# Altium schematic symbol library EPROM Emulator NG 2.SCHLIB: 31 symbols
Pins are listed as number, name and electrical type; pins without a type are passive.

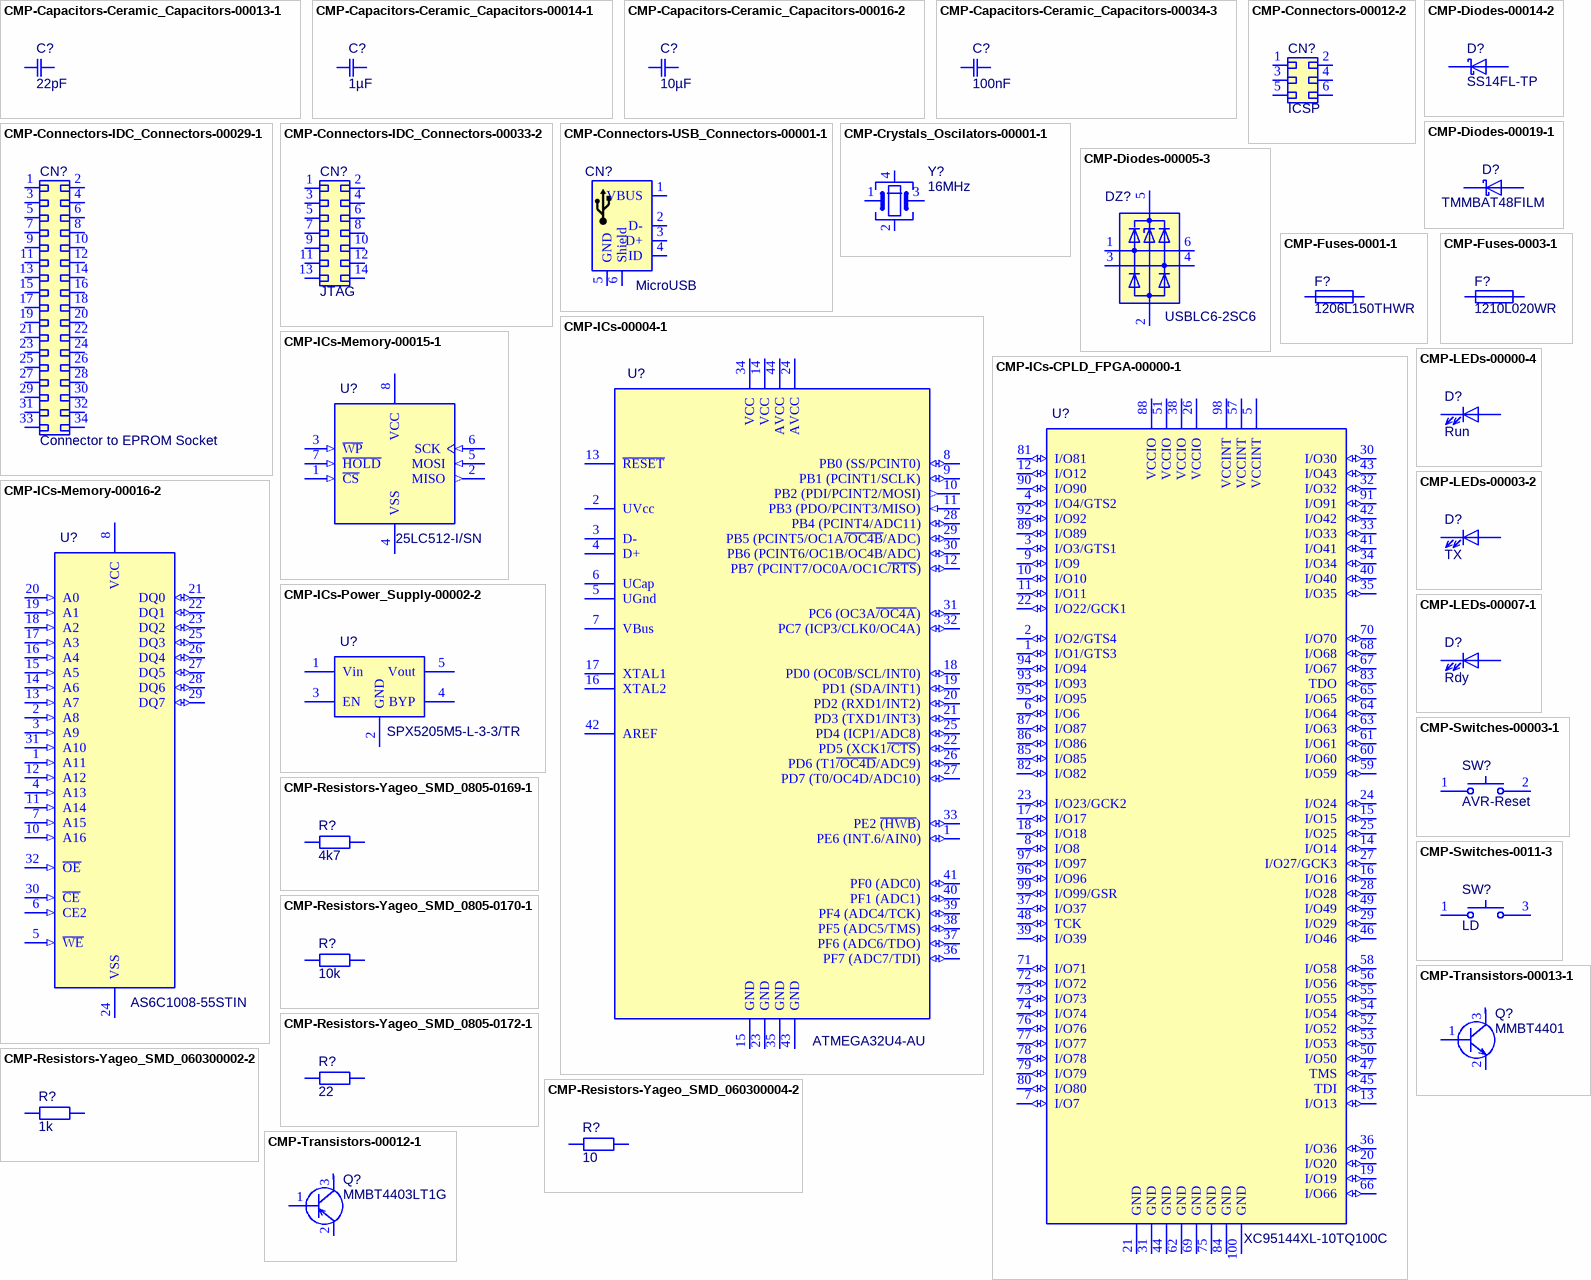
[diagram p0: symbols CMP-Capacitors-Ceramic_Capacitors-00013-1 to CMP-Transistors-00013-1]

## CMP-Capacitors-Ceramic_Capacitors-00013-1
designator C?, comment 22pF
22.0PF 50.0V; Manufacturer: KEMET; Manufacturer Part Number: C0603C220J5RACTU; Tolerance: 5%; Dielectric: X7R; Voltage Rating (DC): 50V; Dielectric Material: Ceramic; Capacitance: 2.2E-11F; Case/Package: 0603; Component Type: Ceramic Capacitors
footprint CAP 22pF SMD 0603 C0603C220J5RAC7867 (Chip Capacitor, 2-Leads, Body 1,60x0,80mm, IPC Medium Density)
pins: 1, 2

## CMP-Capacitors-Ceramic_Capacitors-00014-1
designator C?, comment 1µF
KEMET 1F Multilayer Ceramic Capacitor (MLCC) 25 V 10% X7R dielectric C SMD max op. temp. +125C; Manufacturer Part Number: C0603C105K3RACTU; Dissipation Factor: 5%; Voltage Rating: 25V; Capacitance: 1uF; Case Code (Imperial): 0603; Termination: SMD/SMT; Thickness: 0.034inch; REACH SVHC: No SVHC; Depth: 0.8mm; Width: 0.031inch; Case Code (Metric): 1608; Min Operating Temperature: -55°C; Dielectric: X7R; Package Quantity: 1; Packaging: Tape and Reel; Height: 0.8mm; Max Operating Temperature: 125°C; Tolerance: 10%; Voltage Rating (DC): 25V; Voltage: 25V; Dielectric Material: Ceramic; Case/Package: 0603; Mount: Surface Mount; Length: 1.6mm; Manufacturer: KEMET; Component Type: Ceramic Capacitors
footprint CAP 1µF SMD 0603 C0603C105K3RACTU (Chip Capacitor, 2-Leads, Body 1,60x0,80mm, IPC Medium Density)
pins: 1, 2

## CMP-Capacitors-Ceramic_Capacitors-00016-2
designator C?, comment 10µF
KEMET - C0805C106K8RACTU - CAP, 10µF, 10V, 10%, X7R, 0805; Dissipation Factor: 7.5%; Dielectric Material: Ceramic; Capacitance: 10uF; Max Operating Temperature: 125°C; Packaging: Tape and Reel; Case Code (Imperial): 0805; Depth: 1.25mm; Voltage: 10V; Voltage Rating (DC): 10V; Mount: Surface Mount,PCB; Min Operating Temperature: -55°C; Case Code (Metric): 2012; Case/Package: 0805; Thickness: 0.055inch; Termination: SMD/SMT; Voltage Rating: 10V; Height: 1.25mm; Dielectric: X7R; Width: 1.2mm; Package Quantity: 1; Length: 2mm; REACH SVHC: No SVHC; Tolerance: 10%; Manufacturer: KEMET; Manufacturer Part Number: C0805C106K8RACTU; Component Type: Ceramic Capacitors
footprint Kemet C0805CxxxK8RACTU Series H=1.4mm
pins: 1, 2

## CMP-Capacitors-Ceramic_Capacitors-00034-3
designator C?, comment 100nF
CAP CER 0.1UF 10V X7R 0402; Manufacturer: Murata; Manufacturer Part Number: GRM155R71A104KA01D; Dissipation Factor: 0.035%; Tolerance: 10%; Length: 1mm; Lead Free: Lead Free; REACH SVHC: No SVHC; Case Code (Metric): 1005; Min Operating Temperature: -55°C; Voltage Rating (DC): 10V; Voltage: 10V; Thickness: 0.022inch; Height: 0.5mm; Depth: 0.5mm; Max Operating Temperature: 125°C; Dielectric: X7R; Capacitance: 100nF; Case Code (Imperial): 0402; Number of Pins: 2; Case/Package: 0402; Voltage Rating: 10V; Radiation Hardening: No; Mount: Surface Mount; Packaging: Tape and Reel; Width: 0.02inch; Package Quantity: 1; Termination: SMD/SMT; Component Type: Ceramic Capacitors
footprint CAP CER SMD 0402 100nF 10V Murata GRM155R71A104KA01D (Chip Capacitor, 2-Leads, Body 1,00x0,50mm, IPC Medium Density)
pins: 1, 2

## CMP-Connectors-00012-2
designator CN?, comment ICSP
SMD Pad Connector 02x03 odd even; Component Type: SMD PADS
footprint SMD PAD CONN 02x03 odd even
pins: 1, 2, 3, 4, 5, 6

## CMP-Connectors-IDC_Connectors-00029-1
designator CN?, comment Connector to EPROM Socket
Conn Ejector Header HDR 34 POS 2.54mm Solder RA Thru-Hole Loose Piece; Manufacturer: TE Connectivity AMP; Manufacturer Part Number: 5499345-8; Shrouded: Yes (With); Connector Type: Plug,Header,Pin; Number of Positions: 34; PCB Mount Alignment: No (Without); Insulation Resistance: 5GR; PCB Thickness: 1.57mm; PCB Mounting Orientation: Right Angle; Connector System: Board-to-Board; Plating Thickness: 0.76um; PCB Mount Retention: Without; Contact Current Rating: 1A; Contact Post Length: 2.79mm; Fastening Type: Latch; Min Operating Temperature: -65°C; Board Standoff: No (Without); Termination: Through Hole; Housing Color: Black; ELV: Compliant; Packaging: Tray; Mating Connector Lock: Yes (With); Flammability Rating: UL94 V-0; Mating Retention: Yes (With); Row Spacing: 2.54mm; Height: 13.94mm; Radiation Hardening: No; Mating Alignment: Yes (With); Pitch: 2.54mm; Package Quantity: 24; Contact Material: Brass; Orientation: Right Angle; Lead Free: Lead Free; Contact Plating: Gold,Tin,Matte; Contact Mating Length: 0.24inch; Length: 2.46inch; Mount: Through Hole; Color: Black; Shrouded End Dimension: 3.81mm; Contact Shape: Square; Number of Rows: 2; Max Operating Temperature: 105°C; Housing Material: Nylon; Number of Contacts: 34; Component Type: IDC Connectors
footprint IDC Header 2x17 Right Angle with Lock
pins: 1, 2, 3, 4, 5, 6, 7, 8, 9, 10, 11, 12, 13, 14, 15, 16, 17, 18, 19, 20, 21, 22, 23, 24, 25, 26, 27, 28, 29, 30, 31, 32, 33, 34

## CMP-Connectors-IDC_Connectors-00033-2
designator CN?, comment JTAG
Grid pitch: 1.27 mm BL2/15-0400GTT-014 RU MPE Garry Conten; Manufacturer: MPE-Garry; Manufacturer Part Number: 369-1-014-0-NTX-KT0; Pitch: 1.27mm; Contact Material: Bronze,Tin; Height: 3.95mm; Length: 19.7mm; Width: 5mm; Insulation Material: Thermoplastic; Component Type: IDC Connectors
footprint MPE 369-1-014 Buchsenleisten MicroMatch 1,27 mm,2X10,gerade
pins: 1, 2, 3, 4, 5, 6, 7, 8, 9, 10, 11, 12, 13, 14

## CMP-Connectors-USB_Connectors-00001-1
designator CN?, comment MicroUSB
Socket micro-USB B 5P, 629105150521, Würth Elektronik; Manufacturer: Wurth Electronics; Gender: Receptacle; Number of Contacts: 5; USB Standard: USB 2.0; Connector Type: USB; Orientation: Right Angle; Lead Free: Lead Free; Mount: Surface Mount,Horizontal; REACH SVHC: Unknown; Contact Plating: Gold; Packaging: Tape and Reel; Termination: SMD/SMT; Features: Shielded; Contact Material: Copper Alloy; Manufacturer Part Number: 629105150521; Component Type: USB Connectors
footprint MicroUSB Connector Right Angle Receptacle (Würth 629105150521)
pins: 1 VBUS (power), 2 D-, 3 D+, 4 ID (power), 5 GND, 6 Shield, 7 Shield, 8 Shield, 9 Shield, 10 Mounting Hole hidden, 11 Mounting Hole hidden

## CMP-Crystals_Oscilators-00001-1
designator Y?, comment 16MHz
16MHz ±10ppm 9pF 200Ω SMD,2.0x1.6mm SMD Crystal Resonators RoHS; Manufacturer: Raltron Electronics; Manufacturer Part Number: R2016-16.000-9-1010-TR-NS1; Component Type: Crystals and Oscilators
footprint Crystal 16MHz SMD 2.0x1.6mm 4pos GND2-4
pins: 1, 2, 3, 4

## CMP-Diodes-00005-3
designator DZ?, comment USBLC6-2SC6
TVS DIODE 5.25V 17V SOT23-6; Manufacturer: STMicroelectronics; Working Voltage: 5V; Test Current: 1mA; Direction: Unidirectional,Bidirectional; Leakage Current: 150nA; Capacitance: 3.5pF; Number of Bidirectional Channels: 2; Max Breakdown Voltage: 6V; ESD Protection: Yes; Operating Supply Voltage: 1.1V; Element Configuration: Dual; Peak Pulse Current: 5A; Number of Elements: 1; Data Rate: 480Mbps; Package Quantity: 3000; Max Operating Temperature: 125°C; Width: 1.75mm; Contact Plating: Tin,Matte; Packaging: Tape and Reel; Termination: SMD/SMT; Max Reverse Leakage Current: 150nA; Min Operating Temperature: -40°C; Power Line Protection: Yes; Radiation Hardening: No; REACH SVHC: No SVHC; Breakdown Voltage: 6V; Length: 3.05mm; Clamping Voltage: 17V; Mount: Surface Mount; Depth: 1.75mm; Number of Pins: 6; Reverse Standoff Voltage: 5.25V; Number of Channels: 2; Min Breakdown Voltage: 6V; Height: 1.3mm; Reverse Breakdown Voltage: 6V; Polarity: Unidirectional,Bidirectional; Case/Package: SOT-23; Lead Free: Lead Free; Manufacturer Part Number: USBLC6-2SC6; Component Type: Diodes
footprint USBLC6-2SC6 (ESD Suppressors / TVS Diodes ESD Protection Low Cap)
pins: 1, 2, 3, 4, 5, 6

## CMP-Diodes-00014-2
designator D?, comment SS14FL-TP
DIODE SCHOTTKY 40V 1A DO221AC; Manufacturer: MCC; Packaging: Tape and Reel; Mount: Surface Mount; Average Rectified Current: 1A; Max Reverse Voltage (DC): 40V; Manufacturer Part Number: SS14FL-TP; Component Type: Diodes
footprint SS14FL (Dioden Schottky 40V 1A Oberflächenmontage DO-221AC (SMA-FL))
pins: 1, 2

## CMP-Diodes-00019-1
designator D?, comment TMMBAT48FILM
STMICROELECTRONICS         TMMBAT48FILM..             Small Signal Schottky Diode, Single, 40 V, 350 mA, 900 mV, 7.5 A, 125 C; Recovery Time: 10ns; Voltage Rating (DC): 40V; Max Surge Current: 7.5A; Polarity: Standard; Forward Current: 350mA; Max Power Dissipation: 330mW; Capacitance: 20pF; Forward Voltage: 900mV; Max Reverse Current: 25uA; Outside Diameter: 1.62mm; Mount: Surface Mount; Width: 1.62mm; Peak Non-Repetitive Surge Current: 7.5A; Packaging: Tape and Reel; Min Operating Temperature: -65°C; Case/Package: MELF; Average Rectified Current: 350mA; Length: 3.4mm; Height: 1.62mm; Package Quantity: 1; Max Operating Temperature: 125°C; Max Forward Surge Current (Ifsm): 7.5A; Lead Free: Lead Free; Max Reverse Leakage Current: 25uA; Number of Pins: 2; Output Current: 350mA; Max Repetitive Reverse Voltage (Vrrm): 40V; Weight: 0.01lb; Current Rating: 350mA; Element Configuration: Single; Radiation Hardening: No; Max Reverse Voltage (DC): 40V; REACH SVHC: No SVHC; Termination: SMD/SMT; Reverse Recovery Time: 10ns; Manufacturer: STMicroelectronics; Manufacturer Part Number: TMMBAT48FILM; Component Type: Diodes
footprint MiniMELF Diode (MELF Diode, 2-Leads, Body 3,50x1,50mm, IPC Medium Density)
pins: 1, 2

## CMP-Fuses-0001-1
designator F?, comment 1206L150THWR
PTC RESET FUSE 8V 1.5A 1206; Manufacturer: Littelfuse; Time to Trip: 0.3s; Working Voltage: 6V; Current Rating: 100A; Resistance: 120mR; Power Dissipation: 800mW; Approvals: cULus,TUV; Trip Current: 3A; Voltage Rating: 8V; Package Quantity: 3000; Packaging: Tape and Reel; Termination: SMD/SMT; Length: 3.4mm; REACH SVHC: Unknown; Terminal Material: Copper; Voltage Rating (DC): 8V; Max Operating Temperature: 85°C; Min Operating Temperature: -40°C; Lead Free: Lead Free; Case Code (Metric): 3216; Hold Current: 1.5A; Width: 1.8mm; Height: 0.75mm; Operating Supply Voltage: 8V; Max Current Rating: 100A; Max Voltage Rating (DC): 8V; Case Code (Imperial): 1206; Case/Package: 1206; Manufacturer Part Number: 1206L150THWR; Component Type: Fuses
footprint Littelfuse 1206L150THWR
pins: 1, 2

## CMP-Fuses-0003-1
designator F?, comment 1210L020WR
LITTELFUSE - 1210L020WR - PPTC Resettable Fuse, SMD, POLYFUSE 1210L Series, 200 mA, 400 mA, 30 VDC, -40 °C; Power Dissipation: 600mW; Resistance: 5R; Max Current Rating: 10A; Hold Current: 200mA; Voltage Rating: 30V; Approvals: cULus,TUV; Time to Trip: 0.02s; Trip Current: 400mA; Termination: SMD/SMT; Height: 1mm; Case Code (Metric): 3225; Case Code (Imperial): 1210; Current Rating: 10A; Min Operating Temperature: -40°C; Operating Supply Voltage: 30V; Package Quantity: 3000; Lead Free: Lead Free; Max Voltage Rating (DC): 30V; Width: 2.8mm; Max Operating Temperature: 85°C; Terminal Material: Copper; Packaging: Tape and Reel; Case/Package: 1210; Length: 3.43mm; Voltage Rating (DC): 30V; Working Voltage: 30V; REACH SVHC: No SVHC; Manufacturer: Littelfuse; Manufacturer Part Number: 1210L020WR
footprint PTC Littlefuse 1210L020WR
pins: 1, 2

## CMP-ICs-00004-1
designator U?, comment ATMEGA32U4-AU
ATMEL         ATMEGA32U4-AU            MCU, 8BIT, MEGAAVR, 16MHZ, TQFP-44; Manufacturer: Microchip / Atmel; Core Architecture: AVR; Number of I2C Channels: 1; Number of ADC Channels: 12; Number of I/Os: 26; Oscillator Type: External; Peripherals: Brown-out Detect/Reset,POR,PWM,WDT; Watchdog Timer: Yes; Interface: SPI,USART,I2C,USB,UART,I2S; Number of Timers/Counters: 5; Min Supply Voltage: 2.7V; Number of PWM Channels: 8; Max Supply Voltage: 5.5V; Memory Type: FLASH; RAM Size: 2.5KB; Data Bus Width: 8b; Memory Size: 32KB; Case/Package: TQFP; Lead Free: Lead Free; Max Operating Temperature: 85°C; Package Quantity: 800; Number of Pins: 44; Number of SPI Channels: 1; Min Operating Temperature: -40°C; Mount: Surface Mount; Max Frequency: 16MHz; Number of Programmable I/O: 26; Packaging: Tray; Radiation Hardening: No; Frequency: 16MHz; Length: 10mm; Height: 1.05mm; REACH SVHC: No SVHC; Width: 10mm; Manufacturer Part Number: ATMEGA32U4-AU; Component Type: ICs
footprint ATmega32U4-AU (TQFP, 44-Leads, Body 10,00x10,00mm, Pitch 0,80mm, IPC Medium Density)
pins: 1 PE6 (INT.6/AIN0) (io), 2 UVcc (power), 3 D-, 4 D+, 5 UGnd (power), 6 UCap (power), 7 VBus (power), 8 PB0 (SS/PCINT0) (io), 9 PB1 (PCINT1/SCLK) (io), 10 PB2 (PDI/PCINT2/MOSI) (out), 11 PB3 (PDO/PCINT3/MISO) (in), 12 PB7 (PCINT7/OC0A/OC1C~{/RTS}) (io), 13 ~{RESET}, 14 VCC (power), 15 GND (power), 16 XTAL2, 17 XTAL1, 18 PD0 (OC0B/SCL/INT0) (io), 19 PD1 (SDA/INT1) (io), 20 PD2 (RXD1/INT2) (io), 21 PD3 (TXD1/INT3) (io), 22 PD5 (XCK1~{/CTS}) (io), 23 GND (power), 24 AVCC (power), 25 PD4 (ICP1/ADC8) (io), 26 PD6 (T1~{/OC4D}/ADC9) (io), 27 PD7 (T0/OC4D/ADC10) (io), 28 PB4 (PCINT4/ADC11) (io), 29 PB5 (PCINT5/OC1A~{/OC4B}/ADC) (io), 30 PB6 (PCINT6/OC1B/OC4B/ADC) (io), 31 PC6 (OC3A~{/OC4A}) (io), 32 PC7 (ICP3/CLK0/OC4A) (io), 33 PE2 ~{(HWB}) (io), 34 VCC (power), 35 GND (power), 36 PF7 (ADC7/TDI) (io), 37 PF6 (ADC6/TDO) (io), 38 PF5 (ADC5/TMS) (io), 39 PF4 (ADC4/TCK) (io), 40 PF1 (ADC1) (io), 41 PF0 (ADC0) (io), 42 AREF (power), 43 GND (power), 44 AVCC (power)

## CMP-ICs-CPLD_FPGA-00000-1
designator U?, comment XC95144XL-10TQ100C
IC CPLD 144MC 7.5NS 100TQFP; Manufacturer: Xilinx; Manufacturer Part Number: XC95144XL-7TQ100C; Speed Grade: 7; Operating Supply Voltage: 3.3V; Max Supply Voltage: 3.6V; Number of Gates: 3200; Min Supply Voltage: 3V; Number of I/Os: 81; Number of Macrocells: 144; Number of Logic Blocks (LABs): 8; Max Frequency: 125MHz; Memory Type: FLASH; Turn-On Delay Time: 7.5ns; Mount: Surface Mount; Number of Pins: 100; Propagation Delay: 7.5ns; Package Quantity: 90; Case/Package: LQFP; Contact Plating: Tin,Lead; Packaging: Tray; Lead Free: Contains Lead; Min Operating Temperature: 0°C; Number of Logic Elements/Cells: 8; Max Operating Temperature: 70°C; Component Type: CPLD-FPGA
footprint TQFP-100 P0.5mm XC95144XL-7TQ100C (TSQFP, 100-Leads, Body 14,00x14,00mm, Pitch 0,50mm, IPC Medium Density)
pins: 1 I/O1/GTS3 (io), 2 I/O2/GTS4 (io), 3 I/O3/GTS1 (io), 4 I/O4/GTS2 (io), 5 VCCINT (power), 6 I/O6 (io), 7 I/O7 (io), 8 I/O8 (io), 9 I/O9 (io), 10 I/O10 (io), 11 I/O11 (io), 12 I/O12 (io), 13 I/O13 (io), 14 I/O14 (io), 15 I/O15 (io), 16 I/O16 (io), 17 I/O17 (io), 18 I/O18 (io), 19 I/O19 (io), 20 I/O20 (io), 21 GND, 22 I/O22/GCK1 (io), 23 I/O23/GCK2 (io), 24 I/O24 (io), 25 I/O25 (io), 26 VCCIO (power), 27 I/O27/GCK3 (io), 28 I/O28 (io), 29 I/O29 (io), 30 I/O30 (io), 31 GND, 32 I/O32 (io), 33 I/O33 (io), 34 I/O34 (io), 35 I/O35 (io), 36 I/O36 (io), 37 I/O37 (io), 38 VCCIO (power), 39 I/O39 (io), 40 I/O40 (io), 41 I/O41 (io), 42 I/O42 (io), 43 I/O43 (io), 44 GND, 45 TDI (io), 46 I/O46 (io), 47 TMS (io), 48 TCK (io), 49 I/O49 (io), 50 I/O50 (io), 51 VCCIO (power), 52 I/O52 (io), 53 I/O53 (io), 54 I/O54 (io), 55 I/O55 (io), 56 I/O56 (io), 57 VCCINT (power), 58 I/O58 (io), 59 I/O59 (io), 60 I/O60 (io), 61 I/O61 (io), 62 GND, 63 I/O63 (io), 64 I/O64 (io), 65 I/O65 (io), 66 I/O66 (io), 67 I/O67 (io), 68 I/O68 (io), 69 GND, 70 I/O70 (io), 71 I/O71 (io), 72 I/O72 (io), 73 I/O73 (io), 74 I/O74 (io), 75 GND, 76 I/O76 (io), 77 I/O77 (io), 78 I/O78 (io), 79 I/O79 (io), 80 I/O80 (io), 81 I/O81 (io), 82 I/O82 (io), 83 TDO (io), 84 GND, 85 I/O85 (io), 86 I/O86 (io), 87 I/O87 (io), 88 VCCIO (power), 89 I/O89 (io), 90 I/O90 (io), 91 I/O91 (io), 92 I/O92 (io), 93 I/O93 (io), 94 I/O94 (io), 95 I/O95 (io), 96 I/O96 (io), 97 I/O97 (io), 98 VCCINT (power), 99 I/O99/GSR (io), 100 GND

## CMP-ICs-Memory-00015-1
designator U?, comment 25LC512-I/SN
IC, SM, EEPROM, SERIAL, 512K, SOIC8; Manufacturer: Microchip; Min Supply Voltage: 2.5V; Access Time: 50ns; Memory Size: 512Kb; Nominal Supply Current: 5mA; Frequency: 20MHz; Max Supply Voltage: 5.5V; Interface: SPI,Serial; Width: 3.9mm; Max Operating Temperature: 85°C; Radiation Hardening: No; Package Quantity: 100; Number of Pins: 8; Mount: Surface Mount; Packaging: Rail/Tube; Lead Free: Lead Free; Height: 1.25mm; Min Operating Temperature: -40°C; Memory Type: EEPROM; REACH SVHC: No SVHC; Case/Package: SOIC; Density: 512Kb; Length: 4.9mm; Max Frequency: 20MHz; Manufacturer Part Number: 25LC512-I/SN; Component Type: Memorys
footprint 25LC512 SOIC-8 (SOIC, 8-Leads, Body 4,90x3,90mm, Pitch 1,27mm, IPC Medium Density)
pins: 1 ~{CS} (in), 2 MISO (out), 3 ~{WP} (in), 4 VSS (power), 5 MOSI (in), 6 SCK (in), 7 ~{HOLD} (in), 8 VCC (power)

## CMP-ICs-Memory-00016-2
designator U?, comment AS6C1008-55STIN
Alliance Memory AS6C1008-55STIN SRAM Memory, 1048576bit, 2.7  5.5 V, 55ns 32-Pin STSOP; Memory Type: RAM,SRAM - Asynchronous,SDR; Min Supply Voltage: 2.7V; Address Bus Width: 17b; Max Supply Voltage: 5.5V; Operating Supply Voltage: 3V; Number of Words: 128000; Number of Ports: 1; Memory Size: 1Mb; Interface: Parallel; Number of Pins: 32; Lead Free: Lead Free; Mount: Surface Mount; Min Operating Temperature: -40°C; Length: 11.8mm; Max Operating Temperature: 85°C; Width: 8mm; Radiation Hardening: No; Access Time: 55ns; Case/Package: TSOP; Height: 1mm; Density: 1Mb; Package Quantity: 234; Packaging: Tray; Manufacturer: Alliance Memory; Manufacturer Part Number: AS6C1008-55STIN; Component Type: Memorys
footprint AS6C1008-55STIN (SRAM Speicher; 128kx8bit; 2,7÷5,5V; 55ns; STSOP32; parallel)
pins: 1 A11 (in), 2 A8 (in), 3 A9 (in), 4 A13 (in), 5 ~{WE} (in), 6 CE2 (in), 7 A15 (in), 8 VCC (power), 9 NC (in) hidden, 10 A16 (in), 11 A14 (in), 12 A12 (in), 13 A7 (in), 14 A6 (in), 15 A5 (in), 16 A4 (in), 17 A3 (in), 18 A2 (in), 19 A1 (in), 20 A0 (in), 21 DQ0 (io), 22 DQ1 (io), 23 DQ2 (io), 24 VSS (power), 25 DQ3 (io), 26 DQ4 (io), 27 DQ5 (io), 28 DQ6 (io), 29 DQ7 (io), 30 ~{CE} (in), 31 A10 (in), 32 ~{OE} (in)

## CMP-ICs-Power_Supply-00002-2
designator U?, comment SPX5205M5-L-3-3/TR
LDO Regulator Pos 3.3V 0.15A 5-Pin SOT-23 T/R; Manufacturer: Exar; Min Input Voltage: 2.5V; Number of Outputs: 1; Dropout Voltage: 210mV; Accuracy: 1%; Polarity: Positive; Max Input Voltage: 16V; Output Type: Fixed; Output Current: 150mA; Quiescent Current: 1uA; Packaging: Tape and Reel; Lead Free: Lead Free; Case/Package: SOT-23; Height: 1.15mm; Number of Regulators: 1; Max Operating Temperature: 125°C; Min Operating Temperature: -40°C; Output Voltage: 3.3V; Width: 1.6mm; Radiation Hardening: No; Mount: Surface Mount; Length: 2.9mm; Max Output Current: 150mA; Min Output Voltage: 3.3V; Number of Pins: 5; Manufacturer Part Number: SPX5205M5-L-3-3/TR; Component Type: Power Supplies
footprint SOT-23-5
pins: 1 Vin (power), 2 GND (power), 3 EN, 4 BYP, 5 Vout (power)

## CMP-LEDs-00000-4
designator D?, comment Run
WURTH ELEKTRONIK   151033RS03000   LED, 3MM,  RED, 2600MCD, 621NM; Manufacturer: Wurth Electronics; Test Current: 20mA; Lens Style: Clear,Circular,Round; Forward Voltage: 2V; Viewing Angle: 30°; Forward Current: 30mA; Packaging: Bulk; Color: Red; Package Quantity: 1; Mount: Through Hole; Luminous Intensity: 2600mcd; Wavelength: 621nm; Lens Size: 3mm; Dominant Wavelength: 621nm; Case/Package: Radial; Min Operating Temperature: -40°C; REACH SVHC: Unknown; Max Operating Temperature: 85°C; Height: 5.55mm; Manufacturer Part Number: 151033RS03000; Component Type: LEDs
footprint LED 3mm Red Straight
footprint LED 3mm Red Right Angle 2mm
footprint LED 3mm Red Right Angle 4mm
footprint LED 3mm Red Right Angle 6mm
pins: 1, 2

## CMP-LEDs-00003-2
designator D?, comment TX
LED YELLOW DIFFUSED 0603 SMD; Manufacturer: Wurth Electronics; Manufacturer Part Number: 150060YS55040; Test Current: 20mA; Forward Voltage: 2V; Luminous Intensity: 100mcd; Lens Style: Flat; Dominant Wavelength: 589nm; Viewing Angle: 140°; Lens Size: 0.8mm; Length: 1.6mm; Mount: Surface Mount; Packaging: Cut Tape; Lens Transparency: Diffused; Case/Package: 0603; Color: Yellow; Case Code (Metric): 1608; Case Code (Imperial): 0603; Height: 0.5mm; Width: 0.8mm; Component Type: LEDs
footprint LED Yellow SMD 0603
pins: 1, 2

## CMP-LEDs-00007-1
designator D?, comment Rdy
WURTH ELEKTRONIK - 151033GS03000 - LED, Green, T-1 (3mm), 530 nm, 3.2 V, 30 mA, 15 cd RoHS Compliant: Yes; Manufacturer: Wurth Electronics; Forward Voltage: 3.2V; Luminous Intensity: 15000mcd; Lens Style: Clear,Round,Circular; Wavelength: 530nm; Viewing Angle: 30°; Forward Current: 30mA; Test Current: 20mA; Mount: Through Hole; Package Quantity: 1; Case/Package: Radial; Max Operating Temperature: 85°C; Color: Green; REACH SVHC: Unknown; Height: 5.55mm; Lens Size: 3mm; Min Operating Temperature: -40°C; Packaging: Bulk; Dominant Wavelength: 530nm; Manufacturer Part Number: 151033GS03000; Component Type: LEDs
footprint LED 3mm Green Straight
footprint LED 3mm Green Right Angle 2mm
footprint LED 3mm Green Right Angle 4mm
footprint LED 3mm Green Right Angle 6mm
pins: 1, 2

## CMP-Resistors-Yageo_SMD_0805-0169-1
designator R?, comment 4k7
RES SMD 4.7K OHM 1% 1/10W 0603; Manufacturer: Yageo; Manufacturer Part Number: RC0603FR-074K7L; Resistance: 4.7kR; Voltage Rating: 50V; Temperature Coefficient: 100ppm/°C; Power Rating: 100mW; Military Standard: Not; Packaging: Tape and Reel; Tolerance: 1%; Case Code (Imperial): 0603; Composition: Thick Film; Min Operating Temperature: -55°C; Width: 0.8mm; Length: 1.6mm; Termination: SMD/SMT; Case/Package: 0603; Lead Pitch: 0.3mm; Lead Free: Lead Free; Max Operating Temperature: 155°C; Voltage Rating (DC): 50V; REACH SVHC: No SVHC; Case Code (Metric): 1608; Depth: 0.8mm; Number of Pins: 2; Height: 0.45mm; Component Type: Yageo SMD 0805
footprint 4,7k Ohm R 0603 SMD (Chip Resistor 2-Leads, Body 1,60x0,80mm, IPC Medium Density)
pins: 1, 2

## CMP-Resistors-Yageo_SMD_0805-0170-1
designator R?, comment 10k
RES SMD 10K OHM 1% 1/10W 0603; Manufacturer: Yageo; Manufacturer Part Number: RC0603FR-0710KL; Voltage Rating (DC): 50V; Power Rating: 100mW; Resistance: 10kR; Voltage Rating: 75V; Temperature Coefficient: 100ppm/°C; Length: 1.6mm; Height: 0.45mm; Min Operating Temperature: -55°C; Military Standard: Not; REACH SVHC: No SVHC; Lead Pitch: 0.3mm; Lead Free: Lead Free; Case/Package: 0603; Packaging: Tape and Reel; Number of Pins: 2; Tolerance: 1%; Termination: SMD/SMT; Composition: Thick Film; Width: 0.8mm; Weight: 7.1E-05oz; Case Code (Metric): 1608; Depth: 0.8mm; Max Operating Temperature: 155°C; Case Code (Imperial): 0603; Component Type: Yageo SMD 0805
footprint 10k Ohm R 0603 SMD (Chip Resistor 2-Leads, Body 1,60x0,80mm, IPC Medium Density)
pins: 1, 2

## CMP-Resistors-Yageo_SMD_0805-0172-1
designator R?, comment 22
RES SMD 22 OHM 1% 1/10W 0603; Manufacturer: Yageo; Manufacturer Part Number: RC0603FR-0722RL; Temperature Coefficient: 100ppm/°C; Resistance: 22R; Max Power Dissipation: 100mW; Voltage Rating: 50V; Width: 0.031inch; Termination: SMD/SMT; REACH SVHC: No SVHC; Number of Terminations: 2; Case/Package: 0603; Composition: Thick Film; Lead Free: Lead Free; Case Code (Metric): 1608; Features: Moisture Resistant; Packaging: Tape and Reel; Length: 1.6mm; Military Standard: Not; Height: 0.022inch; Case Code (Imperial): 0603; Max Operating Temperature: 155°C; Depth: 0.8mm; Min Operating Temperature: -55°C; Package Quantity: 1; Power Rating: 100mW; Tolerance: 1%; Number of Pins: 2; Voltage Rating (DC): 50V; Component Type: Yageo SMD 0805
footprint 22 Ohm R 0603 SMD (Chip Resistor 2-Leads, Body 1,60x0,80mm, IPC Medium Density)
pins: 1, 2

## CMP-Resistors-Yageo_SMD_060300002-2
designator R?, comment 1k
RES SMD 1K OHM 1% 1/10W 0603; Manufacturer: Yageo; Manufacturer Part Number: RC0603FR-071KL; Power Rating: 100mW; Resistance: 1kR; Voltage Rating: 50V; Temperature Coefficient: 100ppm/°C; Case/Package: 0603; REACH SVHC: No SVHC; Length: 1.6mm; Tolerance: 1%; Case Code (Metric): 1608; Contact Plating: Tin,Matte; Height: 0.45mm; Case Code (Imperial): 0603; Packaging: Tape and Reel; Max Operating Temperature: 155°C; Military Standard: Not; Lead Free: Lead Free; Depth: 0.8mm; Termination: SMD/SMT; Min Operating Temperature: -55°C; Radiation Hardening: No; Resistor Type: Thick Film; Component Type: Yageo SMD 0603
footprint 1k Ohm R 0603 SMD (Chip Resistor 2-Leads, Body 1,60x0,80mm, IPC Medium Density)
pins: 1, 2

## CMP-Resistors-Yageo_SMD_060300004-2
designator R?, comment 10
YAGEO (PHYCOMP) - RC0603FR-0710RL - RES, THICK FILM, 10R, 1%, 0.1W, 0603; Voltage Rating: 50V; Power Rating: 100mW; Temperature Coefficient: 200ppm/°C; Packaging: Tape and Reel; Case Code (Imperial): 0603; Case/Package: 0603; Resistor Type: Thick Film; Voltage Rating (DC): 50V; Height: 0.45mm; Length: 1.6mm; Resistance: 10R; Military Standard: Not; Width: 0.8mm; Min Operating Temperature: -55°C; Contact Plating: Tin,Matte; Tolerance: 1%; Max Operating Temperature: 155°C; Case Code (Metric): 1608; Radiation Hardening: No; Number of Pins: 2; Lead Free: Lead Free; Depth: 0.8mm; Termination: SMD/SMT; REACH SVHC: No SVHC; Component Type: Yageo SMD 0603
footprint 10R Ohm R 0603 SMD (Chip Resistor 2-Leads, Body 1,60x0,80mm, IPC Medium Density)
pins: 1, 2

## CMP-Switches-00003-1
designator SW?, comment AVR-Reset
SWITCH TACTILE SPST-NO 0.05A 12V; Manufacturer: ITT C&K; Manufacturer Part Number: RS-282G05A3-SMRT; Operating Force: 250gf; Throw Configuration: SPST; Switch Travel: 0.25mm; Actuator Material: Nylon,Polyamide; Switch Function: Off-Mom; Current Rating: 50mA; Mechanical Life: 50000Cycles; Illumination Type: Non-Illuminated; Termination: Gull Wing; Package Quantity: 3000; Mount: Surface Mount; Packaging: Tape and Reel; Voltage Rating (DC): 12V; Lead Free: Lead Free; Component Type: Switches
footprint Tactile Switch Push Button 6x3.6mm H2.5mm SMD RS-282G05A3-SM RT (SWITCH TACTILE SPST-NO 0.05A 12V)
pins: 1, 2

## CMP-Switches-0011-3
designator SW?, comment LD
Black Button Tactile Switch, NO 50 mA 5mm Through Hole; Manufacturer: Wurth Electronics; Manufacturer Part Number: 430476085716; Contact Current Rating: 50mA; Actuator Material: Polymer,Liquid Crystal Polymer; Throw Configuration: SPST; Operating Force: 160gf; Actuator Type: Standard; Switch Function: Off-Mom; Illumination Type: Non-Illuminated,Illuminated; Switch Travel: 0.3mm; Mechanical Life: 500000Cycles; Min Operating Temperature: -40°C; Max Operating Temperature: 85°C; Mount: Through Hole; Termination: PC Pin; Actuator Length: 5mm; Contact Material: Stainless Steel,Silver; Packaging: Bulk; REACH SVHC: No SVHC; Component Type: Switches
footprint Push Button 12x12mm H8.50mm THT
pins: 1, 2, 3, 4

## CMP-Transistors-00012-1
designator Q?, comment MMBT4403LT1G
ON SEMICONDUCTOR - MMBT4403LT1G - Bipolar (BJT) Single Transistor, General Purpose, PNP, -40 V, 200 MHz, 300 mW, -600 mA, 200 RoHS Compliant: Yes; Transition Frequency: 200MHz; Collector Base Voltage (VCBO): 40V; Emitter Base Voltage (VEBO): 5V; Number of Elements: 1; Max Power Dissipation: 300mW; Current Rating: -600mA; Collector Emitter Saturation Voltage: -750mV; hFE Min: 30; Max Collector Current: 600mA; Voltage Rating (DC): -40V; Gain Bandwidth Product: 200MHz; Frequency: 200MHz; Max Operating Temperature: 150°C; Lead Free: Lead Free; Packaging: Tape and Reel; REACH SVHC: No SVHC; Length: 3.04mm; Number of Pins: 3; Radiation Hardening: No; Contact Plating: Tin,Matte; Width: 1.4mm; Max Frequency: 200MHz; Collector Emitter Voltage (VCEO): 40V; Power Dissipation: 300mW; Element Configuration: Single; Case/Package: SOT-23-3; Min Operating Temperature: -55°C; Polarity: PNP; Collector Emitter Breakdown Voltage: 40V; Max Breakdown Voltage: 40V; Height: 1.01mm; Package Quantity: 1; Manufacturer: ON Semiconductor; Manufacturer Part Number: MMBT4403LT1G; Component Type: Transistors
footprint MMBT4403 SOT23
pins: 1, 2, 3

## CMP-Transistors-00013-1
designator Q?, comment MMBT4401
ON SEMICONDUCTOR - MMBT4401 - TRANSISTOR, NPN, SMD, SOT-23; Manufacturer: ON Semiconductor / Fairchild; Element Configuration: Single; Frequency: 250MHz; Collector Emitter Breakdown Voltage: 40V; hFE Min: 100; Max Power Dissipation: 350mW; Emitter Base Voltage (VEBO): 6V; Turn-On Delay Time: 35ns; Collector Emitter Saturation Voltage: 750mV; Max Collector Current: 600mA; Current Rating: 500mA; Turn-Off Delay Time: 255ns; Collector Base Voltage (VCBO): 60V; Number of Elements: 1; Gain Bandwidth Product: 250MHz; Min Operating Temperature: -55°C; Contact Plating: Tin,Matte; REACH SVHC: No SVHC; Packaging: Tape and Reel; Weight: 0.03g; Height: 0.25inch; Power Dissipation: 350mW; Length: 0.25inch; Number of Pins: 3; Transition Frequency: 250MHz; Radiation Hardening: No; Max Breakdown Voltage: 40V; Mount: Surface Mount; Polarity: NPN; Package Quantity: 1; Max Frequency: 250MHz; Width: 0.25inch; Voltage Rating (DC): 40V; Lead Free: Lead Free; Max Operating Temperature: 150°C; Case/Package: SOT-23; Collector Emitter Voltage (VCEO): 40V; Manufacturer Part Number: MMBT4401; Component Type: Transistors
footprint MMBT4401 SOT23
pins: 1, 2, 3